# Altium footprint library MBR0530.PcbLib: 3 footprints
Each footprint in its own frame and in the unit in brackets; x right, y up, seen from the top. Pads: shape width x height; smd on the part's side, far side on the other; paste and mask are expansions set on the pad; w line width, h text height; cw(c..) or ccw(c..) is an arc to the next point about the centre after c.
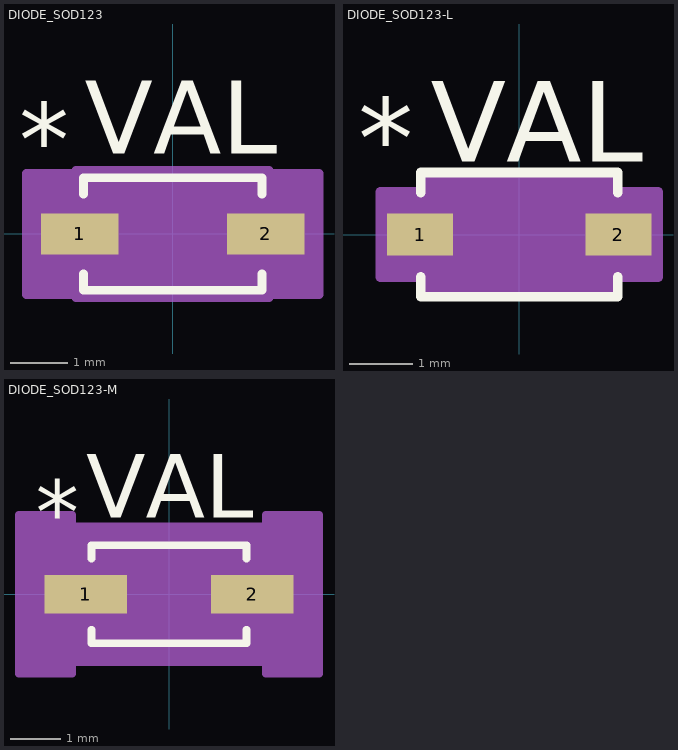
[diagram p0: the footprints below, top view; thin cyan lines are the x and y axes]

## DIODE_SOD123 [mil]
pads (2):
  rect 53x28 smd: 1(-63.5,0) 2(63.5,0)
Top Overlay:
  lines w6: -61,-27.1 -61,-38.5 61,-38.5 61,-27.1 ; -61,27.1 -61,38.5 61,38.5 61,27.1
  text "*" at -105,40 h50
  text "VAL" at -60,55 h50
Mechanical 13:
  text "*" at -105,40 h50
Mechanical 15:
  region: -66,-41.5 -100,-41.5 -100,41.5 -66,41.5 -66,43.5 66,43.5 66,41.5 100,41.5 100,-41.5 66,-41.5 66,-43.5 -66,-43.5
  lines w6: -100,-41.5 -100,41.5 -66,41.5 -66,43.5 66,43.5 66,41.5 100,41.5 100,-41.5 66,-41.5 66,-43.5 -66,-43.5 -66,-41.5 -100,-41.5
3D body "DIODE_SOD123.stp": height 32.01, standoff 0, extent -76,-33.5 76,33.5

## DIODE_SOD123-L [mil]
pads (2):
  rect 41x26 smd: 1(-61.5,0) 2(61.5,0)
Top Overlay:
  lines w6: -61,-26.1 -61,-38.5 61,-38.5 61,-26.1 ; -61,26.1 -61,38.5 61,38.5 61,26.1
  text "*" at -100,35 h50
  text "VAL" at -55,45 h50
Mechanical 13:
  text "*" at -100,35 h50
Mechanical 15:
  region: -60,-26.5 -86,-26.5 -86,26.5 -60,26.5 -60,37.5 60,37.5 60,26.5 86,26.5 86,-26.5 60,-26.5 60,-37.5 -60,-37.5
  lines w6: -86,-26.5 -86,26.5 -60,26.5 -60,37.5 60,37.5 60,26.5 86,26.5 86,-26.5 60,-26.5 60,-37.5 -60,-37.5 -60,-26.5 -86,-26.5
3D body "DIODE_SOD123.stp": height 32.01, standoff 0, extent -76,-33.5 76,33.51

## DIODE_SOD123-M [mil]
pads (2):
  rect 65x30 smd: 1(-65.5,0) 2(65.5,0)
Top Overlay:
  lines w6: -61,-28.1 -61,-38.5 61,-38.5 61,-28.1 ; -61,28.1 -61,38.5 61,38.5 61,28.1
  text "*" at -105,40 h50
  text "VAL" at -65,60 h50
Mechanical 13:
  text "*" at -105,40 h50
Mechanical 15:
  region: -76,-62.5 -118,-62.5 -118,62.5 -76,62.5 -76,53.5 76,53.5 76,62.5 118,62.5 118,-62.5 76,-62.5 76,-53.5 -76,-53.5
  lines w6: -118,-62.5 -118,62.5 -76,62.5 -76,53.5 76,53.5 76,62.5 118,62.5 118,-62.5 76,-62.5 76,-53.5 -76,-53.5 -76,-62.5 -118,-62.5
3D body "DIODE_SOD123.stp": height 32.01, standoff 0, extent -75.99,-33.5 76.01,33.51